# EAGLE library part LEDARRAY (library monome)
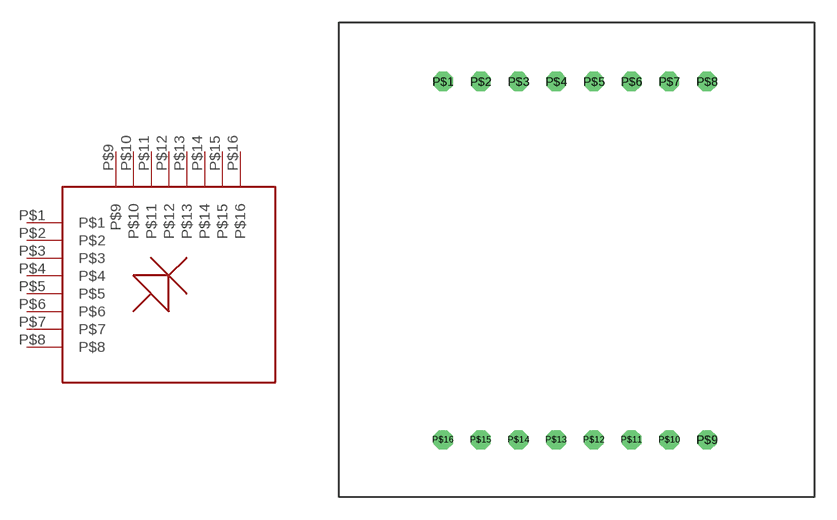
[diagram p21: symbol with the pads of LEDARRAY; footprint LEDARRAY]

Designator prefix -

## LEDARRAY  [LEDARRAY]
P$1  P$1
P$2  P$2
P$3  P$3
P$4  P$4
P$5  P$5
P$6  P$6
P$7  P$7
P$8  P$8
P$9  P$9
P$10  P$10
P$11  P$11
P$12  P$12
P$13  P$13
P$14  P$14
P$15  P$15
P$16  P$16

## Footprint LEDARRAY (pad centres in mm)
drill 0.8 octagon: P$1 0,0; P$2 2.54,0; P$3 5.08,0; P$4 7.62,0; P$5 10.16,0; P$6 12.7,0; P$7 15.24,0; P$8 17.78,0; P$9 17.78,-24.13; P$10 15.24,-24.13; P$11 12.7,-24.13; P$12 10.16,-24.13; P$13 7.62,-24.13; P$14 5.08,-24.13; P$15 2.54,-24.13; P$16 0,-24.13